# EAGLE library part M12 (library 00shaunc)
12-Way Header Molex 12-way 0.1" header. Use with Farnell No.: 9732543 or 9732560 (Polarised).
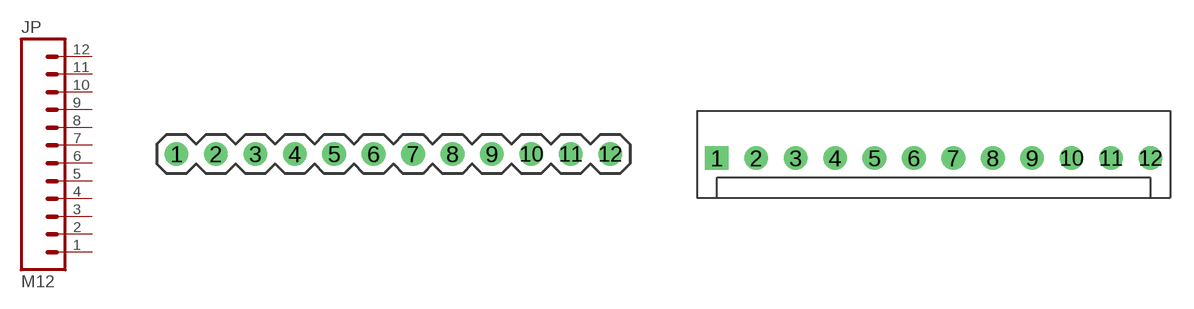
[diagram p5: symbol with the pads of MOLEX-1X12; footprints MOLEX-1X12, MOLEX-1X12_POLAR]

Designator prefix JP

## M12PTH  [MOLEX-1X12]
1  1  pas
2  2  pas
3  3  pas
4  4  pas
5  5  pas
6  6  pas
7  7  pas
8  8  pas
9  9  pas
10  10  pas
11  11  pas
12  12  pas

## M12POLAR  [MOLEX-1X12_POLAR]
Pads as for MOLEX-1X12

## Footprint MOLEX-1X12 (pad centres in mm)
Molex 22-03-2121 (1x12) Header, Farnell No.: 9732543.
drill 1.016: 1 0,0; 2 2.54,0; 3 5.08,0; 4 7.62,0; 5 10.16,0; 6 12.7,0; 7 15.24,0; 8 17.78,0; 9 20.32,0; 10 22.86,0; 11 25.4,0; 12 27.94,0

## Footprint MOLEX-1X12_POLAR (pad centres in mm)
Molex 22-27-2121 (1x12) Polarised Header, Farnell No.: 9732560.
drill 1.016 square: 1 -13.97,0
drill 1.016: 2 -11.43,0; 3 -8.89,0; 4 -6.35,0; 5 -3.81,0; 6 -1.27,0; 7 1.27,0; 8 3.81,0; 9 6.35,0; 10 8.89,0; 11 11.43,0; 12 13.97,0